# Altium footprint library adafruit.PCBLIB: 643 footprints (part 28 of 41)
Each footprint in its own frame and in the unit in brackets; x right, y up, seen from the top. Pads: shape width x height; smd on the part's side, far side on the other; paste and mask are expansions set on the pad; w line width, h text height; cw(c..) or ccw(c..) is an arc to the next point about the centre after c.
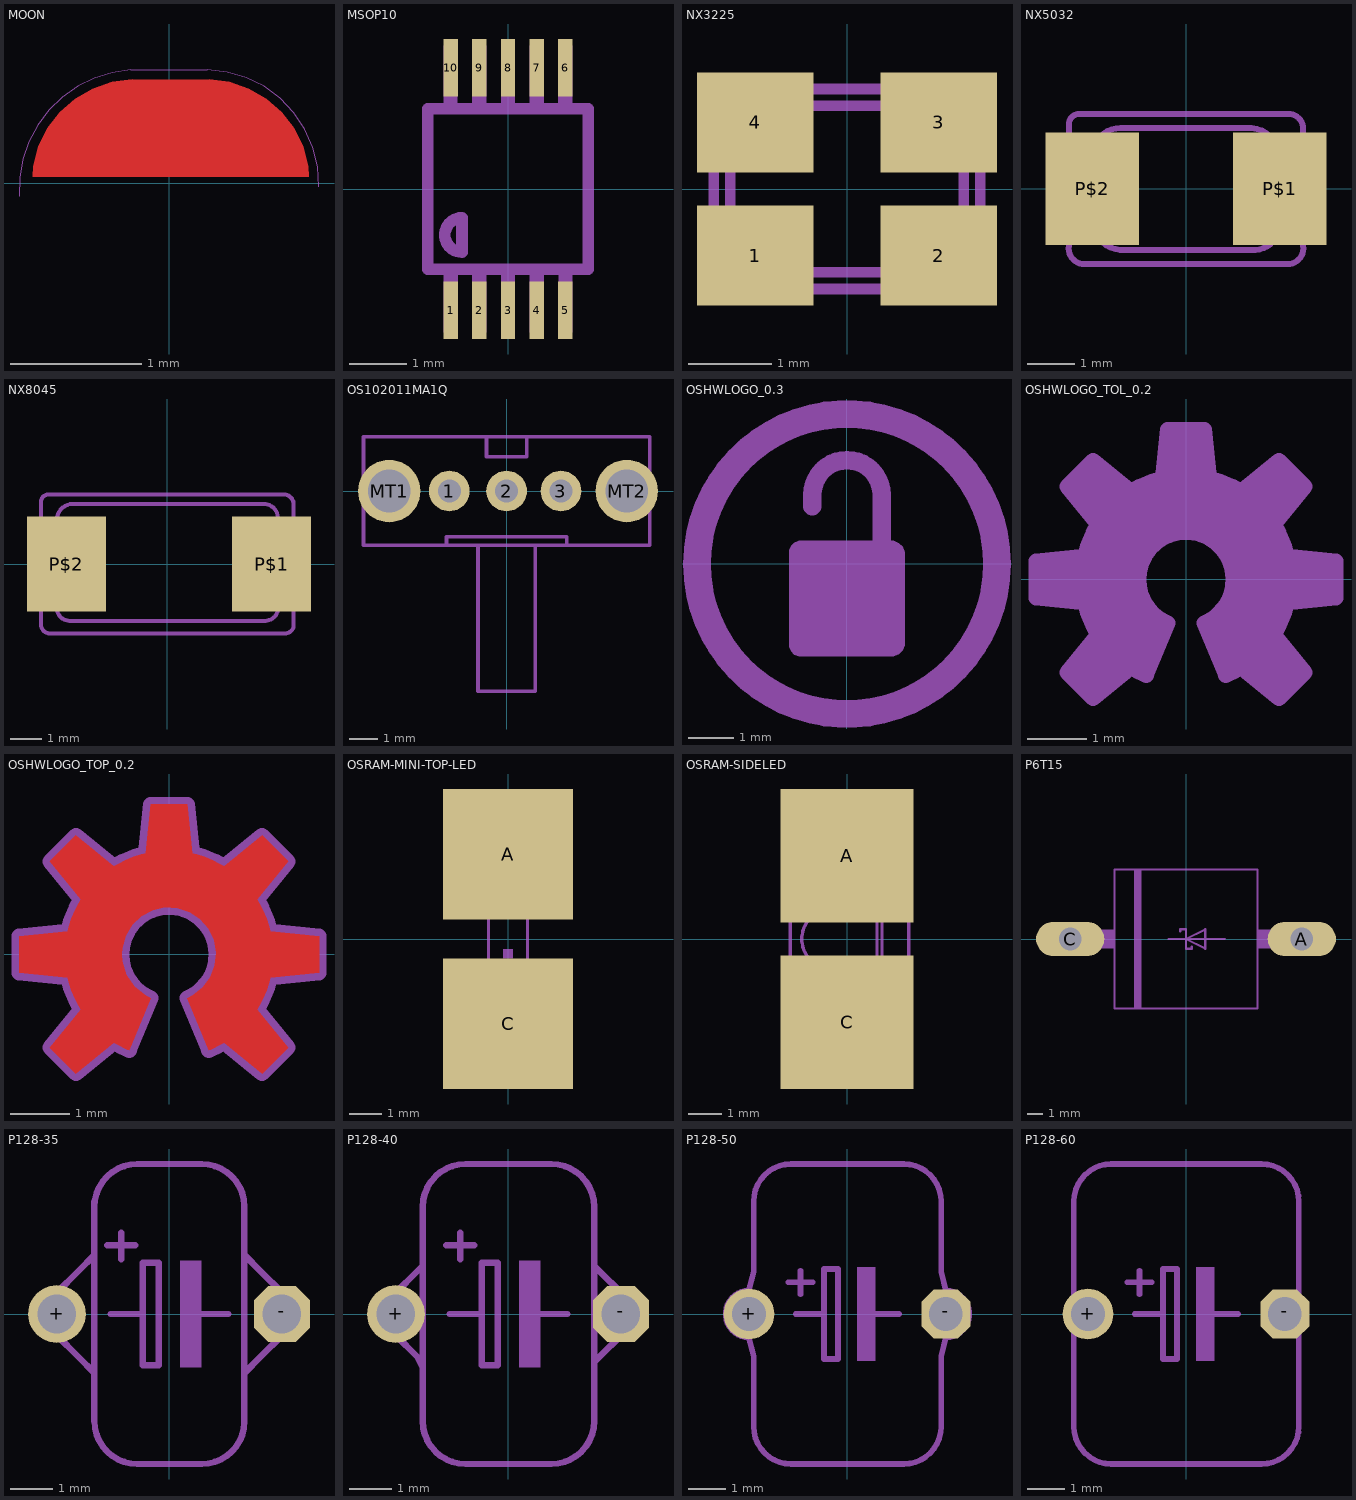
[diagram p27: the footprints below, top view; thin cyan lines are the x and y axes]

## MOON [mil]
Top Layer:
  region: -41,2 42,2 41.8,5.05 40.23,10.97 37.52,16.46 33.8,21.31 29.21,25.35 23.91,28.42 18.12,30.39 12.05,31.2 9,31 -8,31 -11.05,31.2 -17.12,30.39 -22.91,28.42 -28.21,25.35 -32.8,21.31 -36.52,16.46 -39.23,10.97 -40.8,5.05
Mechanical 2:
  lines w0: -45,-4 cw(c-9.25,-1.75) -11.5,34 11.5,34 cw(c10.74,-0.26) 45,-1

## MSOP10 [mm]
pads (10):
  rect 0.25x1 smd: 1(-1,-2.113) 2(-0.5,-2.113) 3(0,-2.113) 4(0.5,-2.113) 5(1,-2.113) 6(1,2.113) 7(0.5,2.113) 8(0,2.113) 9(-0.5,2.113) 10(-1,2.113)
Mechanical 2:
  lines w0.203: -1.4,-1.4 1.4,-1.4 1.4,1.4 -1.4,1.4 -1.4,-1.4 ; -0.8,-1.1 cw(c-0.8,-0.8) -0.8,-0.5 -0.8,-1.1
Mechanical 18:
  rectangle: -1.124,-2.5 -0.875,-1.5
  rectangle: -0.624,-2.5 -0.374,-1.5
  rectangle: -0.124,-2.5 0.125,-1.5
  rectangle: 0.376,-2.5 0.626,-1.5
  rectangle: 0.876,-2.5 1.126,-1.5
  region: 1.124,2.5 0.875,2.5 0.875,1.5 1.124,1.5
  region: 0.624,2.5 0.374,2.5 0.374,1.5 0.624,1.5
  region: 0.124,2.5 -0.125,2.5 -0.125,1.5 0.124,1.5
  region: -0.376,2.5 -0.626,2.5 -0.626,1.5 -0.376,1.5
  region: -0.876,2.5 -1.126,2.5 -1.126,1.5 -0.876,1.5

## NX3225 [mil]
pads (4):
  rect 55.12x47.24 smd: 1(-43.31,-31.5) 2(43.31,-31.5) 3(43.31,31.5) 4(-43.31,31.5)
Mechanical 2:
  lines w5: -62.99,-47.24 -62.99,47.24 62.99,47.24 62.99,-47.24 -62.99,-47.24 ; -55.12,-26.87 ccw(c-42.62,-26.87) -42.62,-39.37 42.62,-39.37 ccw(c42.62,-26.87) 55.12,-26.87 55.12,26.87 ccw(c42.62,26.87) 42.62,39.37 -42.62,39.37 ccw(c-42.62,26.87) -55.12,26.87 -55.12,-26.87

## NX5032 [mm]
pads (2):
  rect 2x2.4 smd: P$1(2,0) P$2(-2,0)
Mechanical 2:
  lines w0.127: -2.5,-1.217 ccw(c-2.167,-1.267) -2.217,-1.6 2.217,-1.6 ccw(c2.167,-1.267) 2.5,-1.217 2.5,1.284 ccw(c2.184,1.284) 2.184,1.6 -2.276,1.6 ccw(c-2.276,1.376) -2.5,1.376 -2.5,-1.217 ; -2,-0.7 ccw(c-1.35,-0.65) -1.3,-1.3 1.4,-1.3 ccw(c1.45,-0.75) 2,-0.8 2,0.6 ccw(c1.35,0.65) 1.4,1.3 -1.4,1.3 ccw(c-1.4,0.7) -2,0.7 -2,-0.7

## NX8045 [mm]
pads (2):
  rect 2.5x3 smd: P$1(3.3,0) P$2(-3.2,0)
Mechanical 2:
  lines w0.127: -4,-1.917 ccw(c-3.717,-1.917) -3.717,-2.2 3.717,-2.2 ccw(c3.717,-1.917) 4,-1.917 4,1.884 ccw(c3.684,1.884) 3.684,2.2 -3.776,2.2 ccw(c-3.776,1.976) -4,1.976 -4,-1.917 ; -3.5,-1.4 ccw(c-3.1,-1.4) -3.1,-1.8 3.1,-1.8 ccw(c3.1,-1.4) 3.5,-1.4 3.5,1.4 ccw(c3.05,1.45) 3.1,1.9 -3,1.9 ccw(c-3,1.4) -3.5,1.4 -3.5,-1.4

## OS102011MA1Q [mil]
pads (5):
  round 56 hole 31.5: 1(-78.74,0) 2(0,0) 3(74.8,0)
  round 86 hole 59.06: MT1(-161.42,0) MT2(165.35,0)
Mechanical 2:
  lines w5: -82.68,-74.8 -39.37,-74.8 ; -82.68,-74.8 -196.85,-74.8 -196.85,74.8 -27.56,74.8 ; -82.68,-74.8 -82.68,-62.99 82.68,-62.99 82.68,-74.8 ; -39.37,-74.8 39.37,-74.8 ; -39.37,-74.8 -39.37,-275.59 39.37,-275.59 39.37,-74.8 ; -27.56,74.8 27.56,74.8 ; -27.56,74.8 -27.56,47.24 27.56,47.24 27.56,74.8 ; 27.56,74.8 196.85,74.8 196.85,-74.8 82.68,-74.8 ; 39.37,-74.8 82.68,-74.8

## OSHWLOGO_0.3 [mil]
Mechanical 18:
  circle w24: c0,0 r130
  region: 50,-68 50,-70.39 48.17,-74.8 44.8,-78.17 40.39,-80 38,-80 -40,-80 -41.99,-80 -45.66,-78.48 -48.48,-75.66 -50,-71.99 -50,-70 -50,10 -50,11.99 -48.48,15.66 -45.66,18.48 -41.99,20 -40,20 38,20 40.39,20 44.8,18.17 48.17,14.8 50,10.39 50,8
  lines w16: -30,50 -30,60 cw(c0,60) 0,90 cw(c0,60) 30,60 30,20

## OSHWLOGO_TOL_0.2 [mil]
Mechanical 18:
  region: 26.31,-63.52 27.63,-62.97 30.21,-61.77 32.74,-60.47 35.22,-59.06 36.43,-58.3 61.57,-78.8 78.8,-61.57 58.3,-36.43 59.81,-34.01 62.42,-28.94 64.61,-23.67 66.35,-18.24 66.99,-15.46 99.26,-12.19 99.26,12.19 66.99,15.46 66.35,18.24 64.61,23.67 62.42,28.94 59.81,34.01 58.3,36.43 78.8,61.57 61.57,78.8 36.43,58.3 34.01,59.81 28.94,62.42 23.67,64.61 18.24,66.35 15.46,66.99 12.19,99.26 -12.19,99.26 -15.46,66.99 -18.24,66.35 -23.67,64.61 -28.94,62.42 -34.01,59.81 -36.43,58.3 -61.57,78.8 -78.8,61.57 -58.3,36.43 -59.81,34.01 -62.42,28.94 -64.61,23.67 -66.35,18.24 -66.99,15.46 -99.26,12.19 -99.26,-12.19 -66.99,-15.46 -66.35,-18.24 -64.61,-23.67 -62.42,-28.94 -59.81,-34.01 -58.3,-36.43 -78.8,-61.57 -61.57,-78.8 -36.43,-58.3 -35.22,-59.06 -32.74,-60.47 -30.21,-61.77 -27.63,-62.97 -26.31,-63.52 -11.96,-28.87 -16.07,-26.8 -23.16,-20.99 -28.25,-13.36 -30.91,-4.59 -31.25,0 -30.97,4.21 -28.72,12.31 -24.4,19.52 -18.31,25.32 -10.89,29.29 -2.68,31.13 5.72,30.72 13.7,28.08 20.7,23.41 26.19,17.04 29.79,9.44 31.22,1.15 30.4,-7.22 27.37,-15.07 22.37,-21.82 15.74,-27 11.96,-28.87
  lines w10: -99.26,-12.19 -99.26,12.19 -66.99,15.46 cw(c0.01,-0.02) -58.3,36.43 -78.8,61.57 -61.57,78.8 -36.43,58.3 cw(c0.02,-0.01) -15.46,66.99 -12.19,99.26 12.19,99.26 15.46,66.99 cw(c-0.02,-0.01) 36.43,58.3 61.57,78.8 78.8,61.57 58.3,36.43 cw(c-0.01,-0.02) 66.99,15.46 99.26,12.19 99.26,-12.19 66.99,-15.46 cw(c-0.01,0.02) 58.3,-36.43 78.8,-61.57 61.57,-78.8 36.43,-58.3 cw(c-0.04,-0.02) 26.31,-63.52 11.96,-28.87 ccw(c0,0) -31.25,0 ccw(c-0.01,0) -11.96,-28.87 -26.31,-63.52 cw(c0.04,-0.02) -36.43,-58.3 -61.57,-78.8 -78.8,-61.57 -58.3,-36.43 cw(c0.01,0.02) -66.99,-15.46 -99.26,-12.19

## OSHWLOGO_TOP_0.2 [mil]
Top Layer:
  region: 26.31,-63.52 27.63,-62.97 30.21,-61.77 32.74,-60.47 35.22,-59.06 36.43,-58.3 61.57,-78.8 78.8,-61.57 58.3,-36.43 59.81,-34.01 62.42,-28.94 64.61,-23.67 66.35,-18.24 66.99,-15.46 99.26,-12.19 99.26,12.19 66.99,15.46 66.35,18.24 64.61,23.67 62.42,28.94 59.81,34.01 58.3,36.43 78.8,61.57 61.57,78.8 36.43,58.3 34.01,59.81 28.94,62.42 23.67,64.61 18.24,66.35 15.46,66.99 12.19,99.26 -12.19,99.26 -15.46,66.99 -18.24,66.35 -23.67,64.61 -28.94,62.42 -34.01,59.81 -36.43,58.3 -61.57,78.8 -78.8,61.57 -58.3,36.43 -59.81,34.01 -62.42,28.94 -64.61,23.67 -66.35,18.24 -66.99,15.46 -99.26,12.19 -99.26,-12.19 -66.99,-15.46 -66.35,-18.24 -64.61,-23.67 -62.42,-28.94 -59.81,-34.01 -58.3,-36.43 -78.8,-61.57 -61.57,-78.8 -36.43,-58.3 -35.22,-59.06 -32.74,-60.47 -30.21,-61.77 -27.63,-62.97 -26.31,-63.52 -11.96,-28.87 -16.07,-26.8 -23.16,-20.99 -28.25,-13.36 -30.91,-4.59 -31.25,0 -30.97,4.21 -28.72,12.31 -24.4,19.52 -18.31,25.32 -10.89,29.29 -2.68,31.13 5.72,30.72 13.7,28.08 20.7,23.41 26.19,17.04 29.79,9.44 31.22,1.15 30.4,-7.22 27.37,-15.07 22.37,-21.82 15.74,-27 11.96,-28.87
Mechanical 18:
  lines w10: -99.26,-12.19 -99.26,12.19 -66.99,15.46 cw(c0.01,-0.02) -58.3,36.43 -78.8,61.57 -61.57,78.8 -36.43,58.3 cw(c0.02,-0.01) -15.46,66.99 -12.19,99.26 12.19,99.26 15.46,66.99 cw(c-0.02,-0.01) 36.43,58.3 61.57,78.8 78.8,61.57 58.3,36.43 cw(c-0.01,-0.02) 66.99,15.46 99.26,12.19 99.26,-12.19 66.99,-15.46 cw(c-0.01,0.02) 58.3,-36.43 78.8,-61.57 61.57,-78.8 36.43,-58.3 cw(c-0.04,-0.02) 26.31,-63.52 11.96,-28.87 ccw(c0,0) -31.25,0 ccw(c-0.01,0) -11.96,-28.87 -26.31,-63.52 cw(c0.04,-0.02) -36.43,-58.3 -61.57,-78.8 -78.8,-61.57 -58.3,-36.43 cw(c0.01,0.02) -66.99,-15.46 -99.26,-12.19

## OSRAM-MINI-TOP-LED [mm]
pads (2):
  rect 4x4 smd paste-2 mask-2: A(0,2.6) C(0,-2.6)
Top Paste:
  rectangle: -0.5,0.6 0.5,1.4
  rectangle: -0.5,-1.4 0.5,-0.6
  rectangle: -0.45,0.65 0.45,1.35
  rectangle: -0.45,-1.35 0.45,-0.65
Mechanical 18:
  rectangle: -0.15,-0.6 0.15,-0.3
  lines w0.102: -0.45,0.95 -0.45,1.1 0.45,1.1 0.45,0.95 ; 0.45,-0.95 0.45,-1.1 -0.45,-1.1 -0.45,-0.9 -0.4,-0.9 ; -0.4,-0.9 0.6,-0.9 0.6,0.9 -0.6,0.9 -0.6,-0.7 -0.4,-0.9

## OSRAM-SIDELED [mm]
pads (2):
  rect 4x4 smd paste-2 mask-2: A(0,2.5) C(0,-2.5)
Top Paste:
  rectangle: -1.9,-2.1 1.9,-0.6
  rectangle: -1.9,0.6 1.9,2.1
Top Solder:
  rectangle: -2.1,-2.2 2.1,-0.4
  rectangle: -2.1,0.4 2.1,2.2
Mechanical 18:
  rectangle: -1.85,-2.05 -0.7,-1
  lines w0.102: 0.85,-1.2 -0.55,-0.9 cw(c-0.45,0) -0.55,0.9 0.85,1.2 ; 0.9,-2.05 0.9,2.05 ; 0.9,-2.05 -1.85,-2.05 -1.85,-0.75 -1.7,-0.75 -1.7,0.75 -1.85,0.75 -1.85,2.05 0.9,2.05 ; 0.9,-2.05 1.05,-2.05 ; 0.9,2.05 1.05,2.05 ; 1.05,-2.05 1.85,-1.85 1.85,1.85 1.05,2.05 ; 1.05,-2.05 1.05,2.05

## P6T15 [mil]
pads (2):
  oval 177x88.5 hole 59: A(300,0) C(-300,0)
Mechanical 2:
  rectangle: -135,-180 -115,180
  rectangle: 185,-25 235,25
  rectangle: -235,-25 -185,25
  lines w6: -45,0 0,0 ; -15,20 -15,25 0,25 0,0 ; 15,-20 15,-25 0,-25 0,0 ; 100,0 0,0 ; 0,0 50,25 50,-25 0,0 ; -185,-180 -185,180 185,180 185,-180 -185,-180
Mechanical 18:
  lines w50: -300,0 -245,0 ; 245,0 300,0

## P128-35 [mil]
pads (2):
  round 54 hole 36: +(-105,0)
  oct 52.29x52.29 hole 36: -(105,0)
Mechanical 2:
  rectangle: 10,-50 30,50
  lines w6: -85,-40 -70,-55 ; -85,40 -70,55 ; -70,-25 -70,-55 ; -70,25 -70,55 ; -70,100 cw(c-30,100) -30,140 30,140 cw(c30,100) 70,100 70,55 ; -70,105 -70,55 ; -58,64 -32,64 ; -55,0 -25,0 ; -45,51 -45,76 ; 25,0 55,0 ; 70,-25 70,-55 ; 70,25 70,55 ; 85,-40 70,-55 ; 85,40 70,55 ; -70,-55 -70,-100 ccw(c-30,-100) -30,-140 30,-140 ccw(c30,-100) 70,-100 70,-55 ; -25,0 -25,-48 -10,-48 -10,48 -25,48 -25,0
Mechanical 18:
  lines w6: -85,-40 -105,-20 cw(c-105,0) -105,20 -85,40 ; -70,-25 -70,25 ; 70,-25 70,25 ; 85,-40 105,-20 ccw(c105,0) 105,20 85,40

## P128-40 [mil]
pads (2):
  round 54 hole 36: +(-105,0)
  oct 52.29x52.29 hole 36: -(105,0)
Mechanical 2:
  rectangle: 10,-50 30,50
  lines w6: -85,-40 -80,-50 ; -85,40 -80,45 ; -80,-30 -80,-50 ; -80,30 -80,45 ; -58,64 -32,64 ; -55,0 -25,0 ; -45,51 -45,76 ; 25,0 55,0 ; 80,-30 80,-45 ; 80,30 80,45 ; 85,-40 80,-45 ; 85,40 80,45 ; -80,-50 -80,-100 ccw(c-40,-100) -40,-140 40,-140 ccw(c40,-100) 80,-100 80,-45 ; -80,45 -80,100 cw(c-40,100) -40,140 40,140 cw(c40,100) 80,100 80,45 ; -25,0 -25,-48 -10,-48 -10,48 -25,48 -25,0
Mechanical 18:
  lines w6: -85,-40 -105,-20 cw(c-105,0) -105,20 -85,40 ; -80,-30 -80,30 ; 80,-30 80,30 ; 85,-40 105,-20 ccw(c105,0) 105,20 85,40

## P128-50 [mil]
pads (2):
  round 54 hole 36: +(-105,0)
  oct 52.29x52.29 hole 36: -(105,0)
Mechanical 2:
  rectangle: 10,-50 30,50
  lines w6: -100,-45 -100,-120 ccw(c-60,-120) -60,-160 60,-160 ccw(c60,-120) 100,-120 100,-45 ; -100,45 -100,120 cw(c-60,120) -60,160 60,160 cw(c60,120) 100,120 100,45 ; -63,34 -37,34 ; -55,0 -25,0 ; -50,21 -50,46 ; 25,0 55,0 ; -25,0 -25,-48 -10,-48 -10,48 -25,48 -25,0
Mechanical 18:
  lines w6: -100,-45 -105,-25 cw(c-105,0) -105,25 -100,45 ; 100,-45 105,-25 ccw(c105,0) 105,25 100,45

## P128-60 [mil]
pads (2):
  round 54 hole 36: +(-105,0)
  oct 52.29x52.29 hole 36: -(105,0)
Mechanical 2:
  rectangle: 10,-50 30,50
  lines w6: -120,-45 -120,-120 ccw(c-80,-120) -80,-160 80,-160 ccw(c80,-120) 120,-120 120,-45 ; -120,45 -120,120 cw(c-80,120) -80,160 80,160 cw(c80,120) 120,120 120,45 ; -63,34 -37,34 ; -55,0 -25,0 ; -50,21 -50,46 ; 25,0 55,0 ; -25,0 -25,-48 -10,-48 -10,48 -25,48 -25,0
Mechanical 18:
  lines w6: -120,-45 -120,45 ; 120,-45 120,45